# EAGLE library part 74LVC4066 (library dubec)
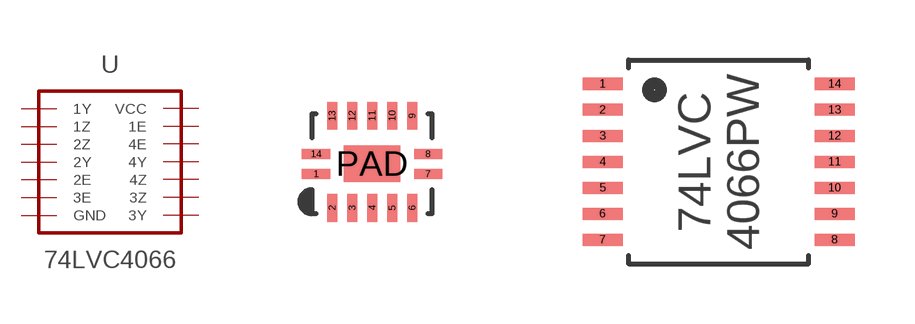
[diagram p15: symbol with the pads of 14-VFQFN; footprints 14-VFQFN, 14-TSSOP]

Designator prefix -

## 74LVC4066D (DIGIKEY_PART_#: 568-3019-1-ND; EURO: 5.11/10; MANUFACTURER: NXP Semiconductors; MFG_PART_#: 74LVC4066BQ,115; TEMP: -40°C ~ 125°C)  [14-VFQFN]

## 74LVC4066PW (DIGIKEY_PART_#: 568-3021-5-ND; EURO: 6.29/10; MANUFACTURER: NXP Semiconductors; MFG_PART_#: 74LVC4066PW,112; TEMP: -40°C ~ 125°C)  [14-TSSOP]
1  1Y  pas
2  1Z  pas
3  2Z  pas
4  2Y  pas
5  2E  pas
6  3E  pas
7  GND  pas
8  3Y  pas
9  3Z  pas
10  4Z  pas
11  4Y  pas
12  4E  pas
13  1E  pas
14  VCC  pas

## Footprint 14-VFQFN (pad centres in mm)
smd 0.7 x 0.25: 1 -1.4,-0.25; 7 1.4,-0.25; 8 1.4,0.25; 14 -1.4,0.25
smd 0.25 x 0.7: 2 -1,-1.1; 3 -0.5,-1.1; 4 0,-1.1; 5 0.5,-1.1; 6 1,-1.1; 9 1,1.2; 10 0.5,1.2; 11 0,1.2; 12 -0.5,1.2; 13 -1,1.2
smd 1.4 x 0.9: PAD 0,0

## Footprint 14-TSSOP (pad centres in mm)
smd 1 x 0.3: 1 -2.9,1.95; 2 -2.9,1.3; 3 -2.9,0.65; 4 -2.9,0; 5 -2.9,-0.65; 6 -2.9,-1.3; 7 -2.9,-1.95; 8 2.9,-1.95; 9 2.9,-1.3; 10 2.9,-0.65; 11 2.9,0; 12 2.9,0.65; 13 2.9,1.3; 14 2.9,1.95